# Altium footprint library Resistors.PcbLib: 4 footprints
Each footprint in its own frame and in the unit in brackets; x right, y up, seen from the top. Pads: shape width x height; smd on the part's side, far side on the other; paste and mask are expansions set on the pad; w line width, h text height; cw(c..) or ccw(c..) is an arc to the next point about the centre after c.
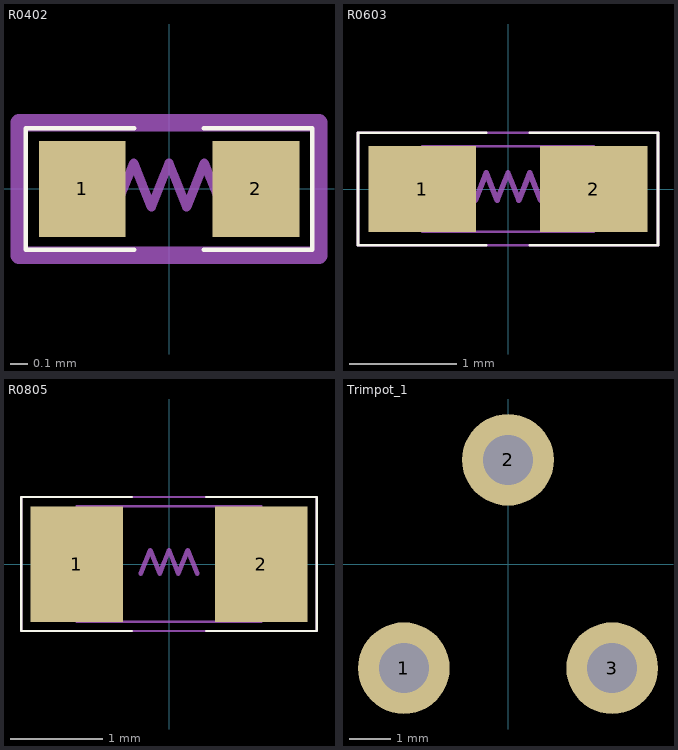
[diagram p0: the footprints below, top view; thin cyan lines are the x and y axes]

## R0402 [mm] "0402 SMD Resistor"
pads (2):
  rect 0.5x0.55 smd mask+0.051: 1(-0.5,0) 2(0.5,0)
Top Overlay:
  lines w0.025: -0.2,-0.35 -0.825,-0.35 -0.825,0.35 -0.2,0.35 ; 0.2,-0.35 0.825,-0.35 0.825,0.35 0.2,0.35
Mechanical 13:
  lines w0.051: -0.305,-0.104 -0.203,0.15 -0.102,-0.104 0,0.15 0.101,-0.104 0.203,0.15 0.305,-0.104
Mechanical 29:
  lines w0.1: -0.864,-0.381 -0.864,0.381 0.863,0.381 0.863,-0.381 -0.864,-0.381
  text ".Designator" at -0.94,-0.203 h0.45
3D body "User Library-SMD RESISTOR-1.step": height 0.35, standoff -0.01, extent -0.5,-0.25 0.5,0.25

## R0603 [mm] "0603 SMD Resistor"
pads (2):
  rect 1x0.8 smd mask+0.102: 1(-0.8,0)
  rect 1x0.8 smd: 2(0.8,0)
Top Overlay:
  lines w0.025: -0.203,-0.525 -1.3,-0.525 -1.4,-0.525 -1.4,0.525 -1.3,0.525 -0.203,0.525 ; 0.203,-0.525 1.3,-0.525 1.4,-0.525 1.4,0.525 1.3,0.525 0.3,0.525 0.203,0.525
Mechanical 13:
  lines w0.025: -0.8,-0.4 0.8,-0.4 0.8,0.4 -0.8,0.4 -0.8,-0.4
  lines w0.051: -0.305,-0.104 -0.203,0.15 -0.102,-0.104 0,0.15 0.102,-0.104 0.203,0.15 0.305,-0.104
Mechanical 15:
  lines w0.025: 0.3,0.525 1.3,0.525 ; 1.3,0.525 -1.3,0.525 -1.4,0.525 -1.4,-0.525 -1.3,-0.525 1.3,-0.525 1.4,-0.525 1.4,0.525 1.3,0.525
3D body "RES0603.stp": height 0.45, standoff 0, extent -0.8,-0.4 0.8,0.4

## R0805 [mm] "0805 SMD Resistor"
pads (2):
  rect 1x1.25 smd: 1(-1,-0.003) 2(1,-0.003)
Top Overlay:
  lines w0.025: -0.4,-0.725 -1.6,-0.725 -1.6,0.725 -0.4,0.725 ; 0.4,-0.725 1.6,-0.725 1.6,0.725 0.4,0.725
Mechanical 13:
  lines w0.025: -1,-0.625 -1,0.625 1,0.625 1,-0.625 -1,-0.625
  lines w0.051: -0.305,-0.104 -0.203,0.15 -0.102,-0.104 0,0.15 0.102,-0.104 0.203,0.15 0.305,-0.104
Mechanical 15:
  lines w0.025: -1.6,-0.725 1.6,-0.725 1.6,0.725 -1.6,0.725 -1.6,-0.725
3D body "RES0805.stp": height 0.5, standoff 0, extent -1,-0.63 1,0.62

## Trimpot_1 [mm] "Amphenol N6L50T0C-103, 5x5,1mm diameter"
pads (3):
  round 2.2 hole 1.2 paste-1.016 mask+0.102: 1(-2.5,-2.5) 2(0,2.5) 3(2.5,-2.5)
3D body "Trimpot Horiz 5mm.step": height 7.46, standoff -1.99, extent -3.25,-3.75 3.25,3.225